# Altium footprint library VQFN20.PcbLib: 1 footprints
Each footprint in its own frame and in the unit in brackets; x right, y up, seen from the top. Pads: shape width x height; smd on the part's side, far side on the other; paste and mask are expansions set on the pad; w line width, h text height; cw(c..) or ccw(c..) is an arc to the next point about the centre after c.
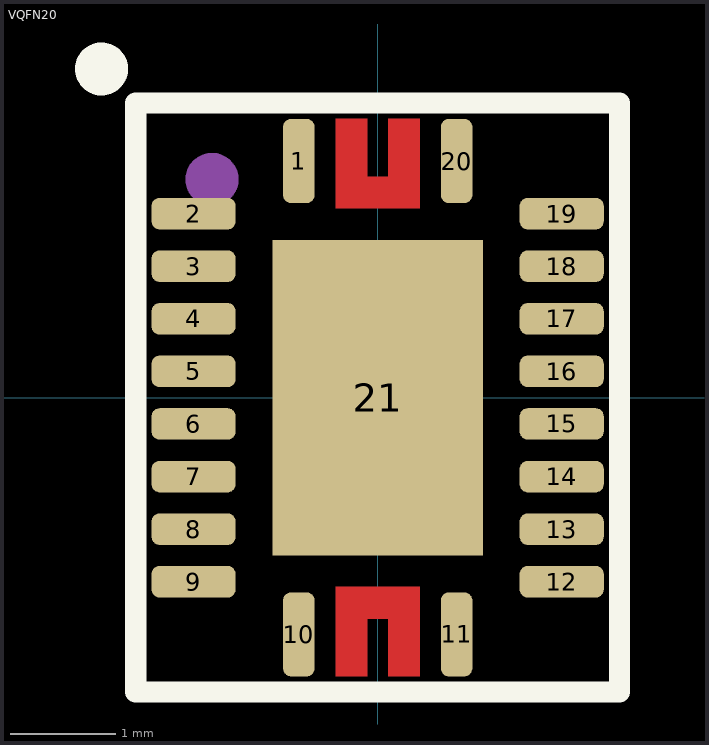
[diagram p0: the footprint, top view; thin cyan lines are the x and y axes]

## VQFN20 [mm]
pads (21):
  rrect50% 0.3x0.8 smd: 1(-0.75,2.25) 10(-0.75,-2.25) 11(0.75,-2.25) 20(0.75,2.25)
  rrect50% 0.8x0.3 smd: 2(-1.75,1.75) 3(-1.75,1.25) 4(-1.75,0.75) 5(-1.75,0.25) 6(-1.75,-0.25) 7(-1.75,-0.75) 8(-1.75,-1.25) 9(-1.75,-1.75) 12(1.75,-1.75) 13(1.75,-1.25) 14(1.75,-0.75) 15(1.75,-0.25) 16(1.75,0.25) 17(1.75,0.75) 18(1.75,1.25) 19(1.75,1.75)
  rect 2x3 smd: 21(0,0)
Top Layer:
  region: -0.4,-2.65 -0.4,-1.8 0.4,-1.8 0.4,-2.65 0.1,-2.65 0.1,-2.1 -0.1,-2.1 -0.1,-2.65
  region: -0.4,2.65 -0.4,1.8 0.4,1.8 0.4,2.65 0.1,2.65 0.1,2.1 -0.1,2.1 -0.1,2.65
Top Overlay:
  circle w0.254: c-2.625,3.125 r0.125
  lines w0.2: -2.3,-2.8 -2.3,2.8 2.3,2.8 2.3,-2.8 -2.3,-2.8
Top Paste:
  region: 0.2,-0.7 0.2,-1.5 1,-1.5 1,-0.7
  region: -1,-0.7 -0.2,-0.7 -0.2,-1.5 -1,-1.5
  region: 0.2,-0.3 1,-0.3 1,0.3 0.2,0.3
  region: -1,-0.3 -0.2,-0.3 -0.2,0.3 -1,0.3
  region: -1,1.5 -1,0.7 -0.2,0.7 -0.2,1.5
  region: 0.2,0.7 1,0.7 1,1.5 0.2,1.5
Top Assembly:
  circle w0.254: c-1.575,2.075 r0.125
  lines w0.1: -2.3,-2.8 -2.3,2.8 2.3,2.8 2.3,-2.8 -0.5,-2.8 -2.3,-2.8
  text "'.Designator'" at -1,-0.3 h0.7
3D body "vqfn1.STEP": height 1, standoff 0, extent -1.8,-2.3 1.8,2.3